# EAGLE library part ATMEGA16U2-MU (library Common-Parts-Library-Eagle)
Avr Usb 8k Flash - Avr Usb 16k Flash Qfn32 Industrial Optim
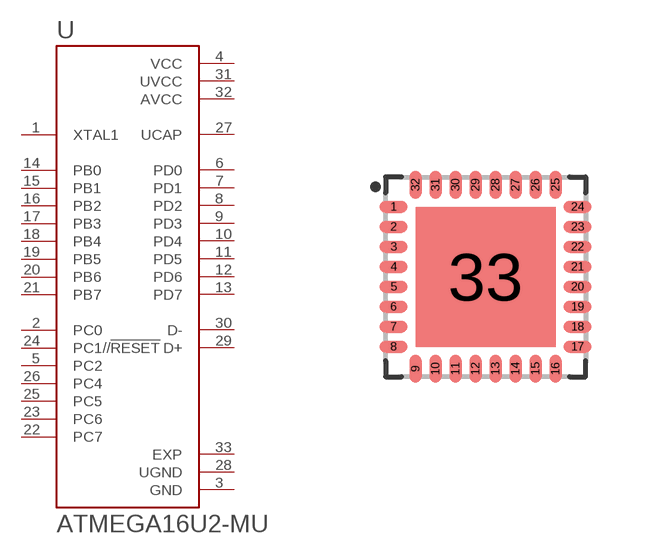
[diagram p34: symbol with the pads of ATMEGA16U2-MU_QFN50P500X500X100-33N; footprint ATMEGA16U2-MU_QFN50P500X500X100-33N]

Designator prefix U

## ATMEGA16U2-MU (MANUFACTURER: Atmel)  [ATMEGA16U2-MU_QFN50P500X500X100-33N]
1  XTAL1  in
2  PC0
3  GND  pwr
4  VCC  pwr
5  PC2
6  PD0
7  PD1
8  PD2
9  PD3
10  PD4
11  PD5
12  PD6
13  PD7
14  PB0
15  PB1
16  PB2
17  PB3
18  PB4
19  PB5
20  PB6
21  PB7
22  PC7
23  PC6
24  PC1//!RESET
25  PC5
26  PC4
27  UCAP  out
28  UGND  pwr
29  D+
30  D-
31  UVCC  pwr
32  AVCC  pwr
33  EXP  pwr

## Footprint ATMEGA16U2-MU_QFN50P500X500X100-33N (pad centres in mm)
smd 0.7 x 0.3: 1 -2.3,1.75; 2 -2.3,1.25; 3 -2.3,0.75; 4 -2.3,0.25; 5 -2.3,-0.25; 6 -2.3,-0.75; 7 -2.3,-1.25; 8 -2.3,-1.75; 17 2.3,-1.75; 18 2.3,-1.25; 19 2.3,-0.75; 20 2.3,-0.25; 21 2.3,0.25; 22 2.3,0.75; 23 2.3,1.25; 24 2.3,1.75
smd 0.3 x 0.7: 9 -1.75,-2.3; 10 -1.25,-2.3; 11 -0.75,-2.3; 12 -0.25,-2.3; 13 0.25,-2.3; 14 0.75,-2.3; 15 1.25,-2.3; 16 1.75,-2.3; 25 1.75,2.3; 26 1.25,2.3; 27 0.75,2.3; 28 0.25,2.3; 29 -0.25,2.3; 30 -0.75,2.3; 31 -1.25,2.3; 32 -1.75,2.3
smd 3.5 x 3.5: 33 0,0